# EAGLE library part IV-12 (library FHD-RETRO)
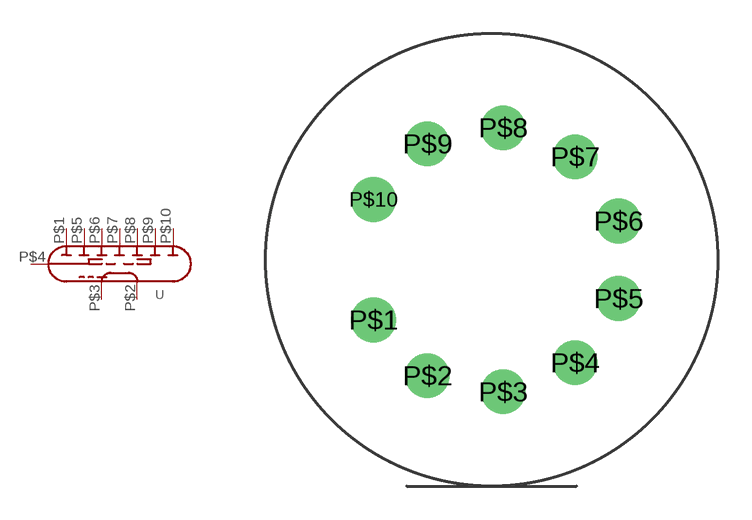
[diagram p12: symbol with the pads of IV-12; footprint IV-12]

Designator prefix -

## IV-12  [IV-12]
P$1  C1
P$2  F2
P$3  F3
P$4  ANODE
P$5  C5
P$6  C6
P$7  C7
P$8  C8
P$9  C9
P$10  C10

## Footprint IV-12 (pad centres in mm)
drill 1 pad 2: P$1 -5.301,-2.701; P$2 -2.885,-5.204; P$3 0.519,-5.927; P$4 3.744,-4.624; P$5 5.69,-1.74; P$6 5.69,1.74; P$7 3.744,4.624; P$8 0.519,5.927; P$9 -2.885,5.204; P$10 -5.301,2.701